# EAGLE library part PIC10FXXX (library microchip-PIC10F)
MICROCONTROLLER 6 pin, 8-Bit Flash
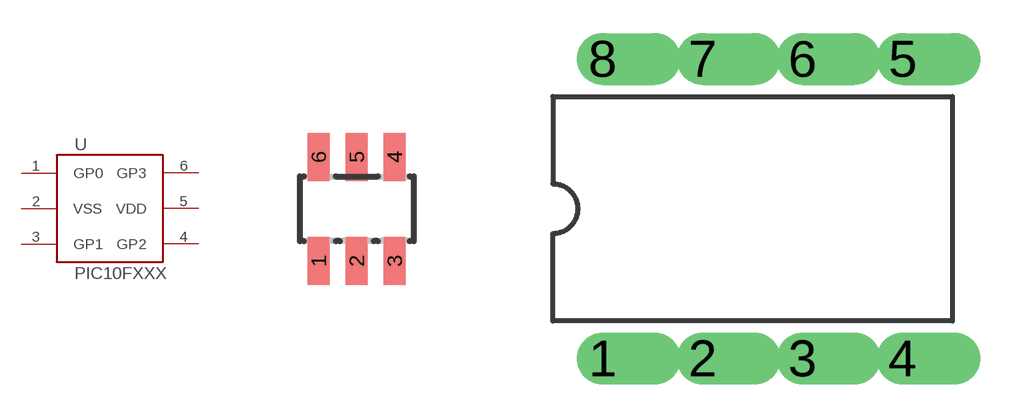
[diagram p0: symbol with the pads of SOT23-6; footprints SOT23-6, PDIP]

Designator prefix -

## PIC10FXXX  [SOT23-6]
1  GP0
2  VSS
3  GP1
4  GP2
5  VDD
6  GP3

## PIC10FXXXDIP  [PDIP]
2  VDD
3  GP2
4  GP1
5  GP0
7  VSS
8  GP3

## Footprint SOT23-6 (pad centres in mm)
Small Outline Transistor
smd 0.55 x 1.2: 1 -0.95,-1.3; 2 0,-1.3; 3 0.95,-1.3; 4 0.95,1.3; 5 0.003,1.3; 6 -0.95,1.3

## Footprint PDIP (pad centres in mm)
drill 0.813 offset: 1 -3.81,-3.81; 2 -1.27,-3.81; 3 1.27,-3.81; 4 3.81,-3.81; 5 3.81,3.81; 6 1.27,3.81; 7 -1.27,3.81; 8 -3.81,3.81